# EAGLE library part MP9361 (library 32teeth - MP9361)
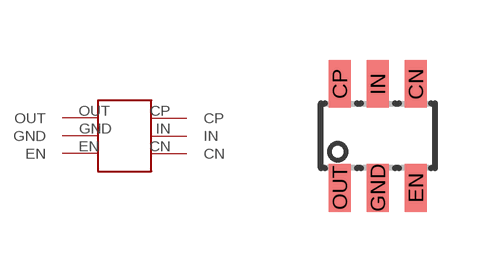
[diagram p0: symbol with the pads of MP9361; footprint MP9361]

Designator prefix -

## MP9361  [MP9361]
CN  CN
CP  CP
EN  EN
GND  GND
IN  IN
OUT  OUT

## Footprint MP9361 (pad centres in mm)
smd 0.55 x 1.2: CN 0.95,1.3; CP -0.95,1.3; EN 0.95,-1.3; GND 0,-1.3; IN 0,1.3; OUT -0.95,-1.3